# Altium integrated library Linear Technology Charge_Pump.IntLib: 599 symbols (part 28 of 29)
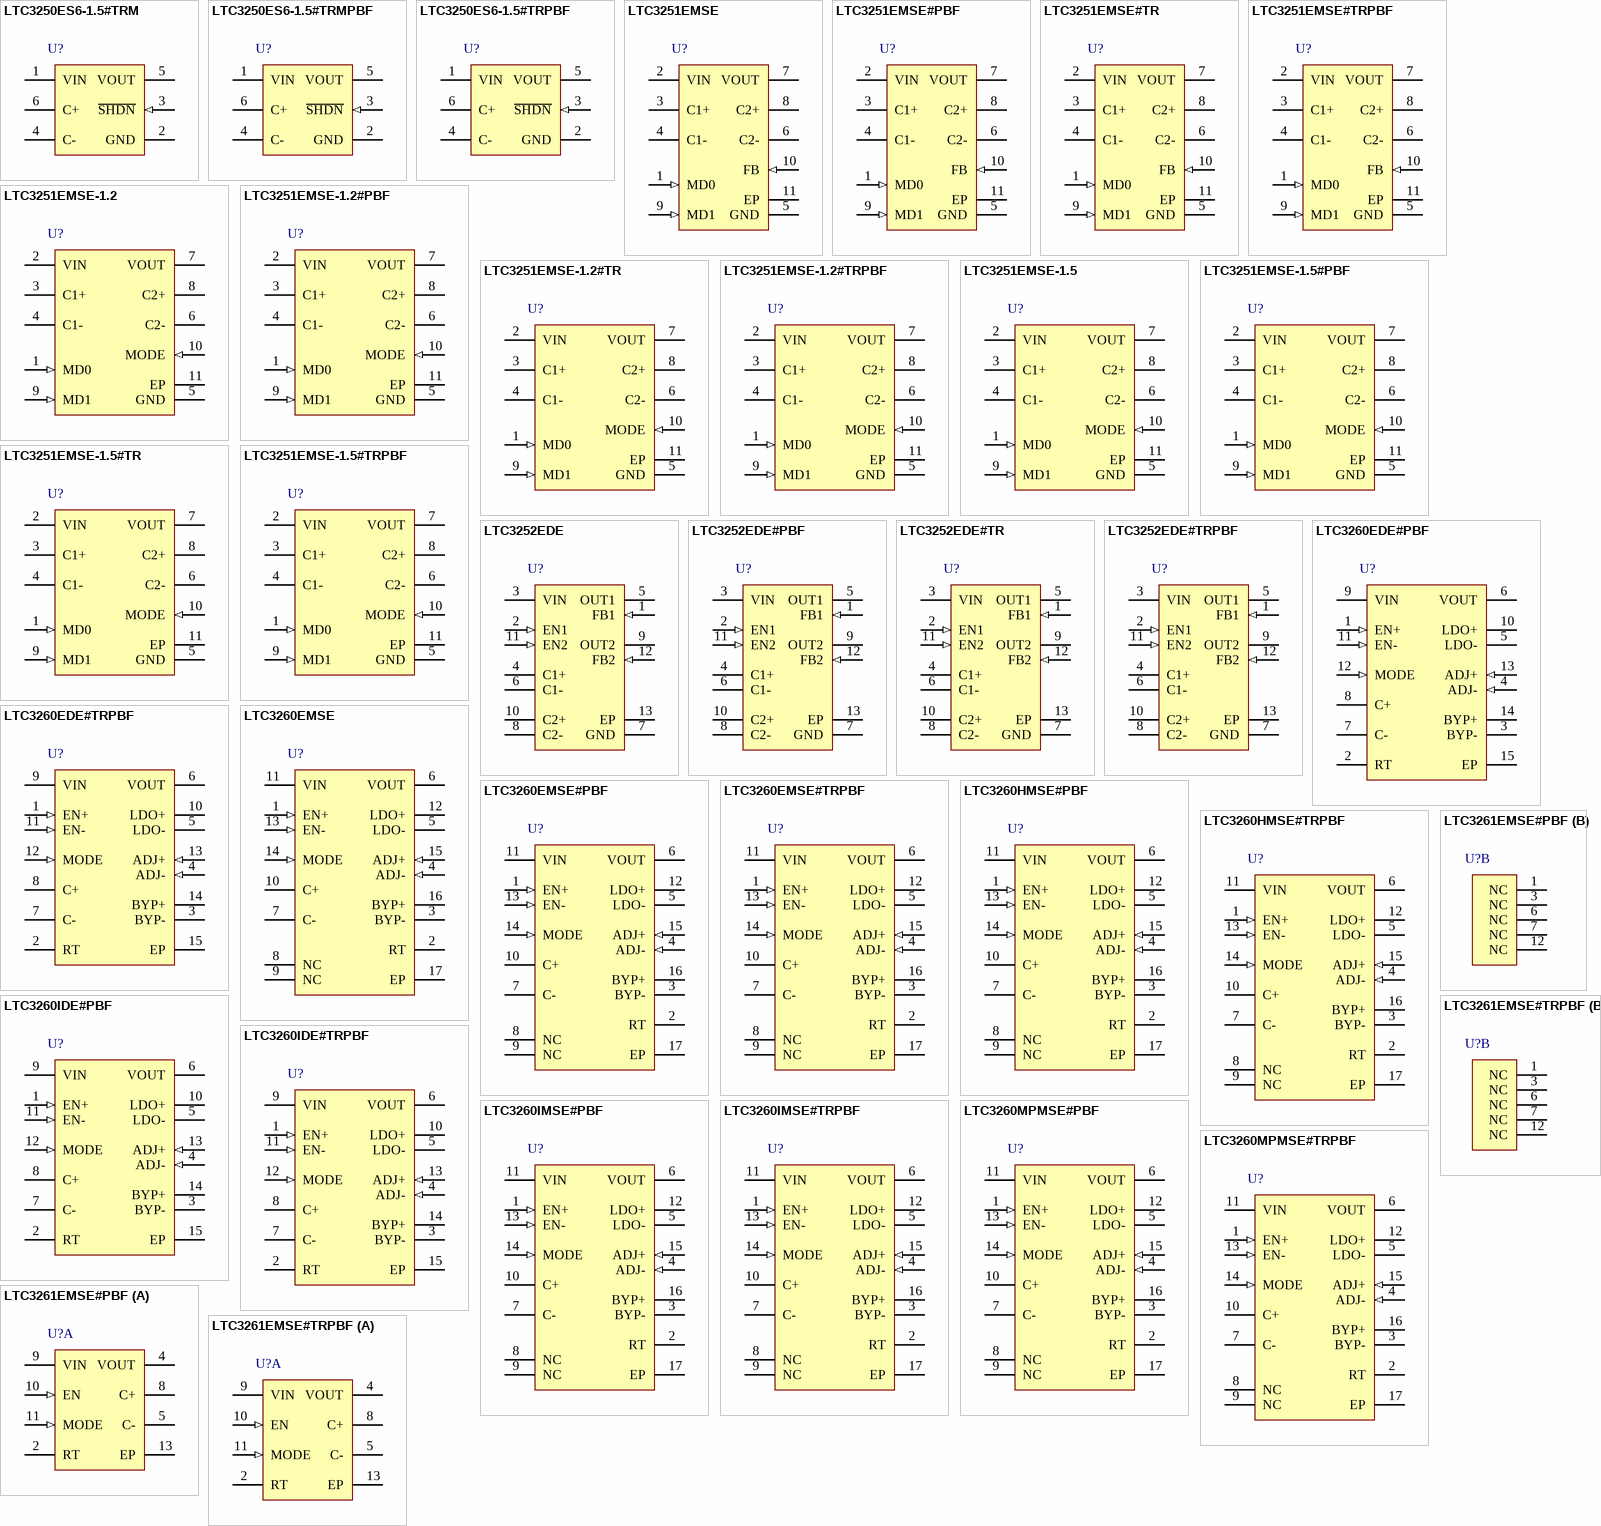
[diagram p43: symbols LTC3250ES6-1.5#TRM to LTC3261EMSE#TRPBF]

## LTC3260HMSE#PBF
designator U?
Low Noise Dual Supply Inverting Charge Pump, 4.5 to 32 V Vin, Adjustable Vout, 16-pin SOP (MSE-16-EDP), -40 to 150 degC, Pb-Free; Manufacturer: Linear Technology; PartNumber: LTC3260HMSE#PBF; Frequency(kHz): 500; Ishutdown(uA): 2; Isupply(mA): 0.1; Max Iout(mA): 100; Vin Max(V): 32; Vin Min(V): 4.5; Voutput: Adj; DatasheetVersion: Rev. A; PackageVersion: Rev. F, 05/2013; PackageReference: MSE-16; PackageDescription: 16-Pin Plastic MSOP, Exposed Die Pad, Body 4.039 x 3 mm, Pitch 0.5 mm; Supplier 1: Digi-Key; Supplier Part Number 1: LTC3260HMSE#PBF-ND; Supplier 2: Farnell; Supplier Part Number 2: 2293104; Supplier 3: Newark; Supplier Part Number 3: 45W8469; RoHS: TRUE; Mounting Technology: Surface Mount; ComponentLink1Description: Manufacturer URL; ComponentLink1URL: http://www.linear.com/; ComponentLink2Description: Datasheet; ComponentLink2URL: http://cds.linear.com/docs/en/datasheet/3260fa.pdf; ComponentLink3Description: Package Specification; ComponentLink3URL: http://cds.linear.com/docs/en/packaging/05081667_F_MSE16.pdf
footprint LT-MSE-16-EDP_N (SOP, 16-Leads, Body 4.1x3.1mm, Pitch 0.5mm, Thermal Pad 2.95x1.76mm, IPC Medium Density)
footprint LT-MSE-16-EDP_L (SOP, 16-Leads, Body 4.1x3.1mm, Pitch 0.5mm, Thermal Pad 2.95x1.76mm, IPC High Density)
footprint LT-MSE-16-EDP_M (SOP, 16-Leads, Body 4.1x3.1mm, Pitch 0.5mm, Thermal Pad 2.95x1.76mm, IPC Low Density)
pins: 1 EN+ (in) "Logic Input. A logic “high” on the EN+ pin enables the positive low dropout (LDO+) regulator.", 2 RT "Input Connection for Programming the Switching Frequency. The RT pin servos to a fixed 1.2V when the EN- pin is driven to a logic “high”. A resistor from RT to GND sets the charge pump switching frequency. If the RT (See Datasheet)", 3 BYP- "LDO- Reference Bypass Pin. Connect a capacitor from BYP- to GND to reduce LDO- output noise. Leave floating if unused.", 4 ADJ- (in) "Feedback Input for the Negative Low Dropout Regulator. This pin servos to a fixed voltage of -1.2V when the control loop is complete.", 5 LDO- (power) "Negative Low Dropout (LDO-) Linear Regulator Output. This pin requires a low ESR (equivalent series resistance) capacitor with at least 2uF capacitance to ground for stability.", 6 VOUT (power) "Charge Pump Output Voltage. In constant frequency mode (MODE = low) this pin is driven to -VIN. In Burst Mode operation, (MODE = high) this pin voltage is regulated to -0.94 • VIN using an internal burst comparator wit(See Datasheet)", 7 C- "Flying Capacitor Negative Connection.", 8 NC "No Connect. These pins are not connected to the LTC3260 die. These pins should be left floating, connected to ground or shorted to adjacent pins.", 9 NC "No Connect. These pins are not connected to the LTC3260 die. These pins should be left floating, connected to ground or shorted to adjacent pins.", 10 C+ "Flying Capacitor Positive Connection.", 11 VIN (power) "Input Voltage for Both Charge Pump and Positive Low Dropout (LDO+) Regulator. VIN should be bypassed with a low impedance ceramic capacitor", 12 LDO+ (power) "Positive Low Dropout (LDO+) Output. This pin requires a low ESR capacitor with at least 2uF capacitance to ground for stability.", 13 EN- (in) "Logic Input. A logic “high” on the EN- pin enables the inverting charge pump as well as the negative LDO regulator.", 14 MODE (in) "Logic Input. The MODE pin determines the charge pump operating mode. A logic “high” on the MODE pin forces the charge pump to operate in Burst Mode operation regulating VOUT to approximately -0.94 • VIN with hyste(See Datasheet)", 15 ADJ+ (in) "Feedback Input for the Positive Low Dropout (LDO+) Regulator. This pin servos to a fixed voltage of 1.2V when the control loop is complete.", 16 BYP+ "LDO+ Reference Bypass Pin. Connect a capacitor from BYP+ to GND to reduce LDO+ output noise. Leave floating if unused.", 17 EP (power) "Ground. The exposed package pad is ground and must be soldered to the PC board ground plane for proper functionality and for rated thermal performance."

## LTC3260HMSE#TRPBF
designator U?
Low Noise Dual Supply Inverting Charge Pump, 4.5 to 32 V Vin, Adjustable Vout, 16-pin SOP (MSE-16-EDP), -40 to 150 degC, Pb-Free, Tape and Reel; Manufacturer: Linear Technology; PartNumber: LTC3260HMSE#TRPBF; Frequency(kHz): 500; Ishutdown(uA): 2; Isupply(mA): 0.1; Max Iout(mA): 100; Vin Max(V): 32; Vin Min(V): 4.5; Voutput: Adj; DatasheetVersion: Rev. A; PackageVersion: Rev. F, 05/2013; PackageReference: MSE-16; PackageDescription: 16-Pin Plastic MSOP, Exposed Die Pad, Body 4.039 x 3 mm, Pitch 0.5 mm; Supplier 1: Digi-Key; Supplier Part Number 1: LTC3260HMSE#TRPBF-ND; Supplier 2: Newark; Supplier Part Number 2: 45W8470; Packing: Tape and Reel; RoHS: TRUE; Mounting Technology: Surface Mount; ComponentLink1Description: Manufacturer URL; ComponentLink1URL: http://www.linear.com/; ComponentLink2Description: Datasheet; ComponentLink2URL: http://cds.linear.com/docs/en/datasheet/3260fa.pdf; ComponentLink3Description: Package Specification; ComponentLink3URL: http://cds.linear.com/docs/en/packaging/05081667_F_MSE16.pdf
footprint LT-MSE-16-EDP_N (SOP, 16-Leads, Body 4.1x3.1mm, Pitch 0.5mm, Thermal Pad 2.95x1.76mm, IPC Medium Density)
footprint LT-MSE-16-EDP_L (SOP, 16-Leads, Body 4.1x3.1mm, Pitch 0.5mm, Thermal Pad 2.95x1.76mm, IPC High Density)
footprint LT-MSE-16-EDP_M (SOP, 16-Leads, Body 4.1x3.1mm, Pitch 0.5mm, Thermal Pad 2.95x1.76mm, IPC Low Density)
pins: 1 EN+ (in) "Logic Input. A logic “high” on the EN+ pin enables the positive low dropout (LDO+) regulator.", 2 RT "Input Connection for Programming the Switching Frequency. The RT pin servos to a fixed 1.2V when the EN- pin is driven to a logic “high”. A resistor from RT to GND sets the charge pump switching frequency. If the RT (See Datasheet)", 3 BYP- "LDO- Reference Bypass Pin. Connect a capacitor from BYP- to GND to reduce LDO- output noise. Leave floating if unused.", 4 ADJ- (in) "Feedback Input for the Negative Low Dropout Regulator. This pin servos to a fixed voltage of -1.2V when the control loop is complete.", 5 LDO- (power) "Negative Low Dropout (LDO-) Linear Regulator Output. This pin requires a low ESR (equivalent series resistance) capacitor with at least 2uF capacitance to ground for stability.", 6 VOUT (power) "Charge Pump Output Voltage. In constant frequency mode (MODE = low) this pin is driven to -VIN. In Burst Mode operation, (MODE = high) this pin voltage is regulated to -0.94 • VIN using an internal burst comparator wit(See Datasheet)", 7 C- "Flying Capacitor Negative Connection.", 8 NC "No Connect. These pins are not connected to the LTC3260 die. These pins should be left floating, connected to ground or shorted to adjacent pins.", 9 NC "No Connect. These pins are not connected to the LTC3260 die. These pins should be left floating, connected to ground or shorted to adjacent pins.", 10 C+ "Flying Capacitor Positive Connection.", 11 VIN (power) "Input Voltage for Both Charge Pump and Positive Low Dropout (LDO+) Regulator. VIN should be bypassed with a low impedance ceramic capacitor", 12 LDO+ (power) "Positive Low Dropout (LDO+) Output. This pin requires a low ESR capacitor with at least 2uF capacitance to ground for stability.", 13 EN- (in) "Logic Input. A logic “high” on the EN- pin enables the inverting charge pump as well as the negative LDO regulator.", 14 MODE (in) "Logic Input. The MODE pin determines the charge pump operating mode. A logic “high” on the MODE pin forces the charge pump to operate in Burst Mode operation regulating VOUT to approximately -0.94 • VIN with hyste(See Datasheet)", 15 ADJ+ (in) "Feedback Input for the Positive Low Dropout (LDO+) Regulator. This pin servos to a fixed voltage of 1.2V when the control loop is complete.", 16 BYP+ "LDO+ Reference Bypass Pin. Connect a capacitor from BYP+ to GND to reduce LDO+ output noise. Leave floating if unused.", 17 EP (power) "Ground. The exposed package pad is ground and must be soldered to the PC board ground plane for proper functionality and for rated thermal performance."

## LTC3260IDE#PBF
designator U?
Low Noise Dual Supply Inverting Charge Pump, 4.5 to 32 V Vin, Adjustable Vout, 14-pin SON (DE-14), -40 to 125 degC, Pb-Free; Manufacturer: Linear Technology; PartNumber: LTC3260IDE#PBF; Frequency(kHz): 500; Ishutdown(uA): 2; Isupply(mA): 0.1; Max Iout(mA): 100; Vin Max(V): 32; Vin Min(V): 4.5; Voutput: Adj; DatasheetVersion: Rev. A; PackageVersion: Rev. B, 06/2010; PackageReference: DE-14; PackageDescription: 14-Pin Plastic DFN, Body 4 x 3 mm, Pitch 0.5 mm; Supplier 1: Digi-Key; Supplier Part Number 1: LTC3260IDE#PBF-ND; Supplier 2: Farnell; Supplier Part Number 2: 2115841; Supplier 3: Newark; Supplier Part Number 3: 94T1247; RoHS: TRUE; Mounting Technology: Surface Mount; Code_JEDEC: MO-229; ComponentLink1Description: Manufacturer URL; ComponentLink1URL: http://www.linear.com/; ComponentLink2Description: Datasheet; ComponentLink2URL: http://cds.linear.com/docs/en/datasheet/3260fa.pdf; ComponentLink3Description: Package Specification; ComponentLink3URL: http://www.linear.com/docs/en/packaging/DFN_14_05-08-1708.pdf
footprint LT-DE-14_V (SON, 14-Leads, Body 4x3mm, Pitch 0.5mm, Thermal Pad 3.3x1.7mm)
pins: 1 EN+ (in) "Logic Input. A logic “high” on the EN+ pin enables the positive low dropout (LDO+) regulator.", 2 RT "Input Connection for Programming the Switching Frequency. The RT pin servos to a fixed 1.2V when the EN- pin is driven to a logic “high”. A resistor from RT to GND sets the charge pump switching frequency. If the RT (See Datasheet)", 3 BYP- "LDO- Reference Bypass Pin. Connect a capacitor from BYP- to GND to reduce LDO- output noise. Leave floating if unused.", 4 ADJ- (in) "Feedback Input for the Negative Low Dropout Regulator. This pin servos to a fixed voltage of -1.2V when the control loop is complete.", 5 LDO- (power) "Negative Low Dropout (LDO-) Linear Regulator Output. This pin requires a low ESR (equivalent series resistance) capacitor with at least 2uF capacitance to ground for stability.", 6 VOUT (power) "Charge Pump Output Voltage. In constant frequency mode (MODE = low) this pin is driven to -VIN. In Burst Mode operation, (MODE = high) this pin voltage is regulated to -0.94 • VIN using an internal burst comparator wit(See Datasheet)", 7 C- "Flying Capacitor Negative Connection.", 8 C+ "Flying Capacitor Positive Connection.", 9 VIN (power) "Input Voltage for Both Charge Pump and Positive Low Dropout (LDO+) Regulator. VIN should be bypassed with a low impedance ceramic capacitor", 10 LDO+ (power) "Positive Low Dropout (LDO+) Output. This pin requires a low ESR capacitor with at least 2uF capacitance to ground for stability.", 11 EN- (in) "Logic Input. A logic “high” on the EN- pin enables the inverting charge pump as well as the negative LDO regulator.", 12 MODE (in) "Logic Input. The MODE pin determines the charge pump operating mode. A logic “high” on the MODE pin forces the charge pump to operate in Burst Mode operation regulating VOUT to approximately -0.94 • VIN with hyste(See Datasheet)", 13 ADJ+ (in) "Feedback Input for the Positive Low Dropout (LDO+) Regulator. This pin servos to a fixed voltage of 1.2V when the control loop is complete.", 14 BYP+ "LDO+ Reference Bypass Pin. Connect a capacitor from BYP+ to GND to reduce LDO+ output noise. Leave floating if unused.", 15 EP (power) "Ground. The exposed package pad is ground and must be soldered to the PC board ground plane for proper functionality and for rated thermal performance."

## LTC3260IDE#TRPBF
designator U?
Low Noise Dual Supply Inverting Charge Pump, 4.5 to 32 V Vin, Adjustable Vout, 14-pin SON (DE-14), -40 to 125 degC, Pb-Free, Tape and Reel; Manufacturer: Linear Technology; PartNumber: LTC3260IDE#TRPBF; Frequency(kHz): 500; Ishutdown(uA): 2; Isupply(mA): 0.1; Max Iout(mA): 100; Vin Max(V): 32; Vin Min(V): 4.5; Voutput: Adj; DatasheetVersion: Rev. A; PackageVersion: Rev. B, 06/2010; PackageReference: DE-14; PackageDescription: 14-Pin Plastic DFN, Body 4 x 3 mm, Pitch 0.5 mm; Supplier 1: Digi-Key; Supplier Part Number 1: LTC3260IDE#TRPBF-ND; Packing: Tape and Reel; RoHS: TRUE; Mounting Technology: Surface Mount; Code_JEDEC: MO-229; ComponentLink1Description: Manufacturer URL; ComponentLink1URL: http://www.linear.com/; ComponentLink2Description: Datasheet; ComponentLink2URL: http://cds.linear.com/docs/en/datasheet/3260fa.pdf; ComponentLink3Description: Package Specification; ComponentLink3URL: http://www.linear.com/docs/en/packaging/DFN_14_05-08-1708.pdf
footprint LT-DE-14_V (SON, 14-Leads, Body 4x3mm, Pitch 0.5mm, Thermal Pad 3.3x1.7mm)
pins: 1 EN+ (in) "Logic Input. A logic “high” on the EN+ pin enables the positive low dropout (LDO+) regulator.", 2 RT "Input Connection for Programming the Switching Frequency. The RT pin servos to a fixed 1.2V when the EN- pin is driven to a logic “high”. A resistor from RT to GND sets the charge pump switching frequency. If the RT (See Datasheet)", 3 BYP- "LDO- Reference Bypass Pin. Connect a capacitor from BYP- to GND to reduce LDO- output noise. Leave floating if unused.", 4 ADJ- (in) "Feedback Input for the Negative Low Dropout Regulator. This pin servos to a fixed voltage of -1.2V when the control loop is complete.", 5 LDO- (power) "Negative Low Dropout (LDO-) Linear Regulator Output. This pin requires a low ESR (equivalent series resistance) capacitor with at least 2uF capacitance to ground for stability.", 6 VOUT (power) "Charge Pump Output Voltage. In constant frequency mode (MODE = low) this pin is driven to -VIN. In Burst Mode operation, (MODE = high) this pin voltage is regulated to -0.94 • VIN using an internal burst comparator wit(See Datasheet)", 7 C- "Flying Capacitor Negative Connection.", 8 C+ "Flying Capacitor Positive Connection.", 9 VIN (power) "Input Voltage for Both Charge Pump and Positive Low Dropout (LDO+) Regulator. VIN should be bypassed with a low impedance ceramic capacitor", 10 LDO+ (power) "Positive Low Dropout (LDO+) Output. This pin requires a low ESR capacitor with at least 2uF capacitance to ground for stability.", 11 EN- (in) "Logic Input. A logic “high” on the EN- pin enables the inverting charge pump as well as the negative LDO regulator.", 12 MODE (in) "Logic Input. The MODE pin determines the charge pump operating mode. A logic “high” on the MODE pin forces the charge pump to operate in Burst Mode operation regulating VOUT to approximately -0.94 • VIN with hyste(See Datasheet)", 13 ADJ+ (in) "Feedback Input for the Positive Low Dropout (LDO+) Regulator. This pin servos to a fixed voltage of 1.2V when the control loop is complete.", 14 BYP+ "LDO+ Reference Bypass Pin. Connect a capacitor from BYP+ to GND to reduce LDO+ output noise. Leave floating if unused.", 15 EP (power) "Ground. The exposed package pad is ground and must be soldered to the PC board ground plane for proper functionality and for rated thermal performance."

## LTC3260IMSE#PBF
designator U?
Low Noise Dual Supply Inverting Charge Pump, 4.5 to 32 V Vin, Adjustable Vout, 16-pin SOP (MSE-16-EDP), -40 to 125 degC, Pb-Free; Manufacturer: Linear Technology; PartNumber: LTC3260IMSE#PBF; Frequency(kHz): 500; Ishutdown(uA): 2; Isupply(mA): 0.1; Max Iout(mA): 100; Vin Max(V): 32; Vin Min(V): 4.5; Voutput: Adj; DatasheetVersion: Rev. A; PackageVersion: Rev. F, 05/2013; PackageReference: MSE-16; PackageDescription: 16-Pin Plastic MSOP, Exposed Die Pad, Body 4.039 x 3 mm, Pitch 0.5 mm; Supplier 1: Digi-Key; Supplier Part Number 1: LTC3260IMSE#PBF-ND; Supplier 2: Farnell; Supplier Part Number 2: 2115842; RoHS: TRUE; Mounting Technology: Surface Mount; ComponentLink1Description: Manufacturer URL; ComponentLink1URL: http://www.linear.com/; ComponentLink2Description: Datasheet; ComponentLink2URL: http://cds.linear.com/docs/en/datasheet/3260fa.pdf; ComponentLink3Description: Package Specification; ComponentLink3URL: http://cds.linear.com/docs/en/packaging/05081667_F_MSE16.pdf
footprint LT-MSE-16-EDP_N (SOP, 16-Leads, Body 4.1x3.1mm, Pitch 0.5mm, Thermal Pad 2.95x1.76mm, IPC Medium Density)
footprint LT-MSE-16-EDP_L (SOP, 16-Leads, Body 4.1x3.1mm, Pitch 0.5mm, Thermal Pad 2.95x1.76mm, IPC High Density)
footprint LT-MSE-16-EDP_M (SOP, 16-Leads, Body 4.1x3.1mm, Pitch 0.5mm, Thermal Pad 2.95x1.76mm, IPC Low Density)
pins: 1 EN+ (in) "Logic Input. A logic “high” on the EN+ pin enables the positive low dropout (LDO+) regulator.", 2 RT "Input Connection for Programming the Switching Frequency. The RT pin servos to a fixed 1.2V when the EN- pin is driven to a logic “high”. A resistor from RT to GND sets the charge pump switching frequency. If the RT (See Datasheet)", 3 BYP- "LDO- Reference Bypass Pin. Connect a capacitor from BYP- to GND to reduce LDO- output noise. Leave floating if unused.", 4 ADJ- (in) "Feedback Input for the Negative Low Dropout Regulator. This pin servos to a fixed voltage of -1.2V when the control loop is complete.", 5 LDO- (power) "Negative Low Dropout (LDO-) Linear Regulator Output. This pin requires a low ESR (equivalent series resistance) capacitor with at least 2uF capacitance to ground for stability.", 6 VOUT (power) "Charge Pump Output Voltage. In constant frequency mode (MODE = low) this pin is driven to -VIN. In Burst Mode operation, (MODE = high) this pin voltage is regulated to -0.94 • VIN using an internal burst comparator wit(See Datasheet)", 7 C- "Flying Capacitor Negative Connection.", 8 NC "No Connect. These pins are not connected to the LTC3260 die. These pins should be left floating, connected to ground or shorted to adjacent pins.", 9 NC "No Connect. These pins are not connected to the LTC3260 die. These pins should be left floating, connected to ground or shorted to adjacent pins.", 10 C+ "Flying Capacitor Positive Connection.", 11 VIN (power) "Input Voltage for Both Charge Pump and Positive Low Dropout (LDO+) Regulator. VIN should be bypassed with a low impedance ceramic capacitor", 12 LDO+ (power) "Positive Low Dropout (LDO+) Output. This pin requires a low ESR capacitor with at least 2uF capacitance to ground for stability.", 13 EN- (in) "Logic Input. A logic “high” on the EN- pin enables the inverting charge pump as well as the negative LDO regulator.", 14 MODE (in) "Logic Input. The MODE pin determines the charge pump operating mode. A logic “high” on the MODE pin forces the charge pump to operate in Burst Mode operation regulating VOUT to approximately -0.94 • VIN with hyste(See Datasheet)", 15 ADJ+ (in) "Feedback Input for the Positive Low Dropout (LDO+) Regulator. This pin servos to a fixed voltage of 1.2V when the control loop is complete.", 16 BYP+ "LDO+ Reference Bypass Pin. Connect a capacitor from BYP+ to GND to reduce LDO+ output noise. Leave floating if unused.", 17 EP (power) "Ground. The exposed package pad is ground and must be soldered to the PC board ground plane for proper functionality and for rated thermal performance."

## LTC3260IMSE#TRPBF
designator U?
Low Noise Dual Supply Inverting Charge Pump, 4.5 to 32 V Vin, Adjustable Vout, 16-pin SOP (MSE-16-EDP), -40 to 125 degC, Pb-Free, Tape and Reel; Manufacturer: Linear Technology; PartNumber: LTC3260IMSE#TRPBF; Frequency(kHz): 500; Ishutdown(uA): 2; Isupply(mA): 0.1; Max Iout(mA): 100; Vin Max(V): 32; Vin Min(V): 4.5; Voutput: Adj; DatasheetVersion: Rev. A; PackageVersion: Rev. F, 05/2013; PackageReference: MSE-16; PackageDescription: 16-Pin Plastic MSOP, Exposed Die Pad, Body 4.039 x 3 mm, Pitch 0.5 mm; Supplier 1: Digi-Key; Supplier Part Number 1: LTC3260IMSE#TRPBF-ND; Packing: Tape and Reel; RoHS: TRUE; Mounting Technology: Surface Mount; ComponentLink1Description: Manufacturer URL; ComponentLink1URL: http://www.linear.com/; ComponentLink2Description: Datasheet; ComponentLink2URL: http://cds.linear.com/docs/en/datasheet/3260fa.pdf; ComponentLink3Description: Package Specification; ComponentLink3URL: http://cds.linear.com/docs/en/packaging/05081667_F_MSE16.pdf
footprint LT-MSE-16-EDP_N (SOP, 16-Leads, Body 4.1x3.1mm, Pitch 0.5mm, Thermal Pad 2.95x1.76mm, IPC Medium Density)
footprint LT-MSE-16-EDP_L (SOP, 16-Leads, Body 4.1x3.1mm, Pitch 0.5mm, Thermal Pad 2.95x1.76mm, IPC High Density)
footprint LT-MSE-16-EDP_M (SOP, 16-Leads, Body 4.1x3.1mm, Pitch 0.5mm, Thermal Pad 2.95x1.76mm, IPC Low Density)
pins: 1 EN+ (in) "Logic Input. A logic “high” on the EN+ pin enables the positive low dropout (LDO+) regulator.", 2 RT "Input Connection for Programming the Switching Frequency. The RT pin servos to a fixed 1.2V when the EN- pin is driven to a logic “high”. A resistor from RT to GND sets the charge pump switching frequency. If the RT (See Datasheet)", 3 BYP- "LDO- Reference Bypass Pin. Connect a capacitor from BYP- to GND to reduce LDO- output noise. Leave floating if unused.", 4 ADJ- (in) "Feedback Input for the Negative Low Dropout Regulator. This pin servos to a fixed voltage of -1.2V when the control loop is complete.", 5 LDO- (power) "Negative Low Dropout (LDO-) Linear Regulator Output. This pin requires a low ESR (equivalent series resistance) capacitor with at least 2uF capacitance to ground for stability.", 6 VOUT (power) "Charge Pump Output Voltage. In constant frequency mode (MODE = low) this pin is driven to -VIN. In Burst Mode operation, (MODE = high) this pin voltage is regulated to -0.94 • VIN using an internal burst comparator wit(See Datasheet)", 7 C- "Flying Capacitor Negative Connection.", 8 NC "No Connect. These pins are not connected to the LTC3260 die. These pins should be left floating, connected to ground or shorted to adjacent pins.", 9 NC "No Connect. These pins are not connected to the LTC3260 die. These pins should be left floating, connected to ground or shorted to adjacent pins.", 10 C+ "Flying Capacitor Positive Connection.", 11 VIN (power) "Input Voltage for Both Charge Pump and Positive Low Dropout (LDO+) Regulator. VIN should be bypassed with a low impedance ceramic capacitor", 12 LDO+ (power) "Positive Low Dropout (LDO+) Output. This pin requires a low ESR capacitor with at least 2uF capacitance to ground for stability.", 13 EN- (in) "Logic Input. A logic “high” on the EN- pin enables the inverting charge pump as well as the negative LDO regulator.", 14 MODE (in) "Logic Input. The MODE pin determines the charge pump operating mode. A logic “high” on the MODE pin forces the charge pump to operate in Burst Mode operation regulating VOUT to approximately -0.94 • VIN with hyste(See Datasheet)", 15 ADJ+ (in) "Feedback Input for the Positive Low Dropout (LDO+) Regulator. This pin servos to a fixed voltage of 1.2V when the control loop is complete.", 16 BYP+ "LDO+ Reference Bypass Pin. Connect a capacitor from BYP+ to GND to reduce LDO+ output noise. Leave floating if unused.", 17 EP (power) "Ground. The exposed package pad is ground and must be soldered to the PC board ground plane for proper functionality and for rated thermal performance."

## LTC3260MPMSE#PBF
designator U?
Low Noise Dual Supply Inverting Charge Pump, 4.5 to 32 V Vin, Adjustable Vout, 16-pin SOP (MSE-16-EDP), -50 to 150 degC, Pb-Free; Manufacturer: Linear Technology; PartNumber: LTC3260MPMSE#PBF; Frequency(kHz): 500; Ishutdown(uA): 2; Isupply(mA): 0.1; Max Iout(mA): 100; Vin Max(V): 32; Vin Min(V): 4.5; Voutput: Adj; DatasheetVersion: Rev. A; PackageVersion: Rev. F, 05/2013; PackageReference: MSE-16; PackageDescription: 16-Pin Plastic MSOP, Exposed Die Pad, Body 4.039 x 3 mm, Pitch 0.5 mm; Supplier 1: Digi-Key; Supplier Part Number 1: LTC3260MPMSE#PBF-ND; Supplier 2: Farnell; Supplier Part Number 2: 2293105; Supplier 3: Newark; Supplier Part Number 3: 45W8471; RoHS: TRUE; Mounting Technology: Surface Mount; ComponentLink1Description: Manufacturer URL; ComponentLink1URL: http://www.linear.com/; ComponentLink2Description: Datasheet; ComponentLink2URL: http://cds.linear.com/docs/en/datasheet/3260fa.pdf; ComponentLink3Description: Package Specification; ComponentLink3URL: http://cds.linear.com/docs/en/packaging/05081667_F_MSE16.pdf
footprint LT-MSE-16-EDP_N (SOP, 16-Leads, Body 4.1x3.1mm, Pitch 0.5mm, Thermal Pad 2.95x1.76mm, IPC Medium Density)
footprint LT-MSE-16-EDP_L (SOP, 16-Leads, Body 4.1x3.1mm, Pitch 0.5mm, Thermal Pad 2.95x1.76mm, IPC High Density)
footprint LT-MSE-16-EDP_M (SOP, 16-Leads, Body 4.1x3.1mm, Pitch 0.5mm, Thermal Pad 2.95x1.76mm, IPC Low Density)
pins: 1 EN+ (in) "Logic Input. A logic “high” on the EN+ pin enables the positive low dropout (LDO+) regulator.", 2 RT "Input Connection for Programming the Switching Frequency. The RT pin servos to a fixed 1.2V when the EN- pin is driven to a logic “high”. A resistor from RT to GND sets the charge pump switching frequency. If the RT (See Datasheet)", 3 BYP- "LDO- Reference Bypass Pin. Connect a capacitor from BYP- to GND to reduce LDO- output noise. Leave floating if unused.", 4 ADJ- (in) "Feedback Input for the Negative Low Dropout Regulator. This pin servos to a fixed voltage of -1.2V when the control loop is complete.", 5 LDO- (power) "Negative Low Dropout (LDO-) Linear Regulator Output. This pin requires a low ESR (equivalent series resistance) capacitor with at least 2uF capacitance to ground for stability.", 6 VOUT (power) "Charge Pump Output Voltage. In constant frequency mode (MODE = low) this pin is driven to -VIN. In Burst Mode operation, (MODE = high) this pin voltage is regulated to -0.94 • VIN using an internal burst comparator wit(See Datasheet)", 7 C- "Flying Capacitor Negative Connection.", 8 NC "No Connect. These pins are not connected to the LTC3260 die. These pins should be left floating, connected to ground or shorted to adjacent pins.", 9 NC "No Connect. These pins are not connected to the LTC3260 die. These pins should be left floating, connected to ground or shorted to adjacent pins.", 10 C+ "Flying Capacitor Positive Connection.", 11 VIN (power) "Input Voltage for Both Charge Pump and Positive Low Dropout (LDO+) Regulator. VIN should be bypassed with a low impedance ceramic capacitor", 12 LDO+ (power) "Positive Low Dropout (LDO+) Output. This pin requires a low ESR capacitor with at least 2uF capacitance to ground for stability.", 13 EN- (in) "Logic Input. A logic “high” on the EN- pin enables the inverting charge pump as well as the negative LDO regulator.", 14 MODE (in) "Logic Input. The MODE pin determines the charge pump operating mode. A logic “high” on the MODE pin forces the charge pump to operate in Burst Mode operation regulating VOUT to approximately -0.94 • VIN with hyste(See Datasheet)", 15 ADJ+ (in) "Feedback Input for the Positive Low Dropout (LDO+) Regulator. This pin servos to a fixed voltage of 1.2V when the control loop is complete.", 16 BYP+ "LDO+ Reference Bypass Pin. Connect a capacitor from BYP+ to GND to reduce LDO+ output noise. Leave floating if unused.", 17 EP (power) "Ground. The exposed package pad is ground and must be soldered to the PC board ground plane for proper functionality and for rated thermal performance."

## LTC3260MPMSE#TRPBF
designator U?
Low Noise Dual Supply Inverting Charge Pump, 4.5 to 32 V Vin, Adjustable Vout, 16-pin SOP (MSE-16-EDP), -50 to 150 degC, Pb-Free, Tape and Reel; Manufacturer: Linear Technology; PartNumber: LTC3260MPMSE#TRPBF; Frequency(kHz): 500; Ishutdown(uA): 2; Isupply(mA): 0.1; Max Iout(mA): 100; Vin Max(V): 32; Vin Min(V): 4.5; Voutput: Adj; DatasheetVersion: Rev. A; PackageVersion: Rev. F, 05/2013; PackageReference: MSE-16; PackageDescription: 16-Pin Plastic MSOP, Exposed Die Pad, Body 4.039 x 3 mm, Pitch 0.5 mm; Supplier 1: Digi-Key; Supplier Part Number 1: LTC3260MPMSE#TRPBF-ND; Supplier 2: Newark; Supplier Part Number 2: 45W8472; Packing: Tape and Reel; RoHS: TRUE; Mounting Technology: Surface Mount; ComponentLink1Description: Manufacturer URL; ComponentLink1URL: http://www.linear.com/; ComponentLink2Description: Datasheet; ComponentLink2URL: http://cds.linear.com/docs/en/datasheet/3260fa.pdf; ComponentLink3Description: Package Specification; ComponentLink3URL: http://cds.linear.com/docs/en/packaging/05081667_F_MSE16.pdf
footprint LT-MSE-16-EDP_N (SOP, 16-Leads, Body 4.1x3.1mm, Pitch 0.5mm, Thermal Pad 2.95x1.76mm, IPC Medium Density)
footprint LT-MSE-16-EDP_L (SOP, 16-Leads, Body 4.1x3.1mm, Pitch 0.5mm, Thermal Pad 2.95x1.76mm, IPC High Density)
footprint LT-MSE-16-EDP_M (SOP, 16-Leads, Body 4.1x3.1mm, Pitch 0.5mm, Thermal Pad 2.95x1.76mm, IPC Low Density)
pins: 1 EN+ (in) "Logic Input. A logic “high” on the EN+ pin enables the positive low dropout (LDO+) regulator.", 2 RT "Input Connection for Programming the Switching Frequency. The RT pin servos to a fixed 1.2V when the EN- pin is driven to a logic “high”. A resistor from RT to GND sets the charge pump switching frequency. If the RT (See Datasheet)", 3 BYP- "LDO- Reference Bypass Pin. Connect a capacitor from BYP- to GND to reduce LDO- output noise. Leave floating if unused.", 4 ADJ- (in) "Feedback Input for the Negative Low Dropout Regulator. This pin servos to a fixed voltage of -1.2V when the control loop is complete.", 5 LDO- (power) "Negative Low Dropout (LDO-) Linear Regulator Output. This pin requires a low ESR (equivalent series resistance) capacitor with at least 2uF capacitance to ground for stability.", 6 VOUT (power) "Charge Pump Output Voltage. In constant frequency mode (MODE = low) this pin is driven to -VIN. In Burst Mode operation, (MODE = high) this pin voltage is regulated to -0.94 • VIN using an internal burst comparator wit(See Datasheet)", 7 C- "Flying Capacitor Negative Connection.", 8 NC "No Connect. These pins are not connected to the LTC3260 die. These pins should be left floating, connected to ground or shorted to adjacent pins.", 9 NC "No Connect. These pins are not connected to the LTC3260 die. These pins should be left floating, connected to ground or shorted to adjacent pins.", 10 C+ "Flying Capacitor Positive Connection.", 11 VIN (power) "Input Voltage for Both Charge Pump and Positive Low Dropout (LDO+) Regulator. VIN should be bypassed with a low impedance ceramic capacitor", 12 LDO+ (power) "Positive Low Dropout (LDO+) Output. This pin requires a low ESR capacitor with at least 2uF capacitance to ground for stability.", 13 EN- (in) "Logic Input. A logic “high” on the EN- pin enables the inverting charge pump as well as the negative LDO regulator.", 14 MODE (in) "Logic Input. The MODE pin determines the charge pump operating mode. A logic “high” on the MODE pin forces the charge pump to operate in Burst Mode operation regulating VOUT to approximately -0.94 • VIN with hyste(See Datasheet)", 15 ADJ+ (in) "Feedback Input for the Positive Low Dropout (LDO+) Regulator. This pin servos to a fixed voltage of 1.2V when the control loop is complete.", 16 BYP+ "LDO+ Reference Bypass Pin. Connect a capacitor from BYP+ to GND to reduce LDO+ output noise. Leave floating if unused.", 17 EP (power) "Ground. The exposed package pad is ground and must be soldered to the PC board ground plane for proper functionality and for rated thermal performance."

## LTC3261EMSE#PBF
designator U?
High Voltage, Low Quiescent Current Inverting Charge Pump, 4.5 to 32 V Vin, 12-pin SOP (MSE-12-EDP), -40 to 125 degC, Pb-Free; Manufacturer: Linear Technology; PartNumber: LTC3261EMSE#PBF; Frequency(kHz): 500; Ishutdown(uA): 2; Isupply(mA): 0.06; Max Iout(mA): 100; Vin Max(V): 32; Vin Min(V): 4.5; Voutput: -Vin; DatasheetVersion: Rev. B; PackageVersion: Rev. G, 05/2013; PackageReference: MSE-12-EDP; PackageDescription: 12-Pin Plastic MSOP, Exposed Die Pad, Body 4.039 x 3 mm, Pitch 0.65 mm; Supplier 1: Digi-Key; Supplier Part Number 1: LTC3261EMSE#PBF-ND; Supplier 2: Farnell; Supplier Part Number 2: 2115843; Supplier 3: Newark; Supplier Part Number 3: 94T1251; RoHS: TRUE; Mounting Technology: Surface Mount; ComponentLink1Description: Manufacturer URL; ComponentLink1URL: http://www.linear.com/; ComponentLink2Description: Datasheet; ComponentLink2URL: http://cds.linear.com/docs/en/datasheet/3261fb.pdf; ComponentLink3Description: Package Specification; ComponentLink3URL: http://cds.linear.com/docs/en/packaging/05081666_G_MSE12.pdf
footprint LT-MSE-12-EDP_N (SOP, 12-Leads, Body 4.1x3.1mm, Pitch 0.65mm, Thermal Pad 2.95x1.76mm, IPC Medium Density)
footprint LT-MSE-12-EDP_L (SOP, 12-Leads, Body 4.1x3.1mm, Pitch 0.65mm, Thermal Pad 2.95x1.76mm, IPC High Density)
footprint LT-MSE-12-EDP_M (SOP, 12-Leads, Body 4.1x3.1mm, Pitch 0.65mm, Thermal Pad 2.95x1.76mm, IPC Low Density)
part A pins: 2 RT "Input Connection for Programming the Switching Frequency. The RT pin servos to a fixed 1.2V when the EN pin is driven to a logic “high? A resistor from RT to GND sets the charge pump switching frequency. If the RT (See Datasheet)", 4 VOUT (power) "Charge Pump Output Voltage. In constant frequency mode (MODE = low) this pin is driven to -VIN. In Burst Mode operation, (MODE = high) this pin voltage is regulated to -0.94 ?VIN using an internal burst comparator wit(See Datasheet)", 5 C- "Flying Capacitor Negative Connection.", 8 C+ "Flying Capacitor Positive Connection.", 9 VIN (power) "Input Voltage for the Charge Pump. VIN should be bypassed with a low impedance ceramic capacitor.", 10 EN (in) "Logic Input. A logic “high?on the EN pin enables the inverting charge pump.", 11 MODE (in) "Logic Input. The MODE pin determines the charge pump operating mode. A logic “high?on the MODE pin forces the charge pump into Burst Mode operation regulating VOUT to approximately -0.94 ?VIN with hysteretic con(See Datasheet)", 13 EP (power) "Ground. The exposed package pad is ground and must be soldered to the PC board ground plane for proper functionality and for rated thermal performance."
part B pins: 1 NC "No Connect Pins. These pins are not connected to the LTC3261 die. These pins should be left floating or connected to ground. Pins 6 and 7 can also be shorted to adjacent pins.", 3 NC "No Connect Pins. These pins are not connected to the LTC3261 die. These pins should be left floating or connected to ground. Pins 6 and 7 can also be shorted to adjacent pins.", 6 NC "No Connect Pins. These pins are not connected to the LTC3261 die. These pins should be left floating or connected to ground. Pins 6 and 7 can also be shorted to adjacent pins.", 7 NC "No Connect Pins. These pins are not connected to the LTC3261 die. These pins should be left floating or connected to ground. Pins 6 and 7 can also be shorted to adjacent pins.", 12 NC "No Connect Pins. These pins are not connected to the LTC3261 die. These pins should be left floating or connected to ground. Pins 6 and 7 can also be shorted to adjacent pins."

## LTC3261EMSE#TRPBF
designator U?
High Voltage, Low Quiescent Current Inverting Charge Pump, 4.5 to 32 V Vin, 12-pin SOP (MSE-12-EDP), -40 to 125 degC, Pb-Free, Tape and Reel; Manufacturer: Linear Technology; PartNumber: LTC3261EMSE#TRPBF; Frequency(kHz): 500; Ishutdown(uA): 2; Isupply(mA): 0.06; Max Iout(mA): 100; Vin Max(V): 32; Vin Min(V): 4.5; Voutput: -Vin; DatasheetVersion: Rev. B; PackageVersion: Rev. G, 05/2013; PackageReference: MSE-12-EDP; PackageDescription: 12-Pin Plastic MSOP, Exposed Die Pad, Body 4.039 x 3 mm, Pitch 0.65 mm; Supplier 1: Digi-Key; Supplier Part Number 1: LTC3261EMSE#TRPBF-ND; Supplier 2: Newark; Supplier Part Number 2: 94T1252; Packing: Tape and Reel; RoHS: TRUE; Mounting Technology: Surface Mount; ComponentLink1Description: Manufacturer URL; ComponentLink1URL: http://www.linear.com/; ComponentLink2Description: Datasheet; ComponentLink2URL: http://cds.linear.com/docs/en/datasheet/3261fb.pdf; ComponentLink3Description: Package Specification; ComponentLink3URL: http://cds.linear.com/docs/en/packaging/05081666_G_MSE12.pdf
footprint LT-MSE-12-EDP_N (SOP, 12-Leads, Body 4.1x3.1mm, Pitch 0.65mm, Thermal Pad 2.95x1.76mm, IPC Medium Density)
footprint LT-MSE-12-EDP_L (SOP, 12-Leads, Body 4.1x3.1mm, Pitch 0.65mm, Thermal Pad 2.95x1.76mm, IPC High Density)
footprint LT-MSE-12-EDP_M (SOP, 12-Leads, Body 4.1x3.1mm, Pitch 0.65mm, Thermal Pad 2.95x1.76mm, IPC Low Density)
part A pins: 2 RT "Input Connection for Programming the Switching Frequency. The RT pin servos to a fixed 1.2V when the EN pin is driven to a logic “high? A resistor from RT to GND sets the charge pump switching frequency. If the RT (See Datasheet)", 4 VOUT (power) "Charge Pump Output Voltage. In constant frequency mode (MODE = low) this pin is driven to -VIN. In Burst Mode operation, (MODE = high) this pin voltage is regulated to -0.94 ?VIN using an internal burst comparator wit(See Datasheet)", 5 C- "Flying Capacitor Negative Connection.", 8 C+ "Flying Capacitor Positive Connection.", 9 VIN (power) "Input Voltage for the Charge Pump. VIN should be bypassed with a low impedance ceramic capacitor.", 10 EN (in) "Logic Input. A logic “high?on the EN pin enables the inverting charge pump.", 11 MODE (in) "Logic Input. The MODE pin determines the charge pump operating mode. A logic “high?on the MODE pin forces the charge pump into Burst Mode operation regulating VOUT to approximately -0.94 ?VIN with hysteretic con(See Datasheet)", 13 EP (power) "Ground. The exposed package pad is ground and must be soldered to the PC board ground plane for proper functionality and for rated thermal performance."
part B pins: 1 NC "No Connect Pins. These pins are not connected to the LTC3261 die. These pins should be left floating or connected to ground. Pins 6 and 7 can also be shorted to adjacent pins.", 3 NC "No Connect Pins. These pins are not connected to the LTC3261 die. These pins should be left floating or connected to ground. Pins 6 and 7 can also be shorted to adjacent pins.", 6 NC "No Connect Pins. These pins are not connected to the LTC3261 die. These pins should be left floating or connected to ground. Pins 6 and 7 can also be shorted to adjacent pins.", 7 NC "No Connect Pins. These pins are not connected to the LTC3261 die. These pins should be left floating or connected to ground. Pins 6 and 7 can also be shorted to adjacent pins.", 12 NC "No Connect Pins. These pins are not connected to the LTC3261 die. These pins should be left floating or connected to ground. Pins 6 and 7 can also be shorted to adjacent pins."

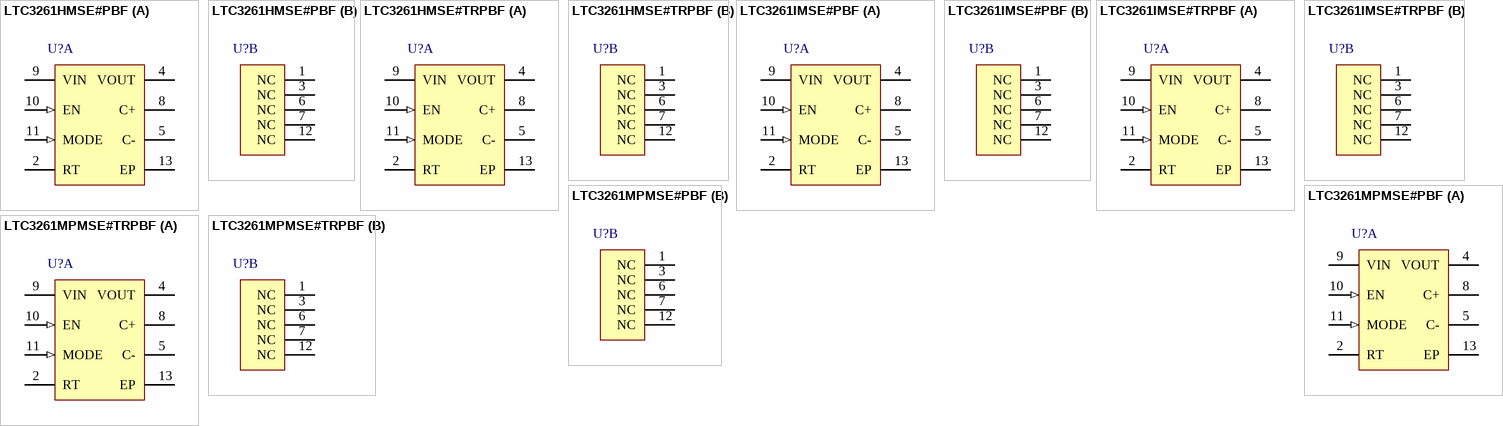
[diagram p16: symbols LTC3261HMSE#PBF to LTC3261MPMSE#TRPBF]

## LTC3261HMSE#PBF
designator U?
High Voltage, Low Quiescent Current Inverting Charge Pump, 4.5 to 32 V Vin, 12-pin SOP (MSE-12-EDP), -40 to 150 degC, Pb-Free; Manufacturer: Linear Technology; PartNumber: LTC3261HMSE#PBF; Frequency(kHz): 500; Ishutdown(uA): 2; Isupply(mA): 0.06; Max Iout(mA): 100; Vin Max(V): 32; Vin Min(V): 4.5; Voutput: -Vin; DatasheetVersion: Rev. B; PackageVersion: Rev. G, 05/2013; PackageReference: MSE-12-EDP; PackageDescription: 12-Pin Plastic MSOP, Exposed Die Pad, Body 4.039 x 3 mm, Pitch 0.65 mm; Supplier 1: Digi-Key; Supplier Part Number 1: LTC3261HMSE#PBF-ND; Supplier 2: Farnell; Supplier Part Number 2: 2293106; Supplier 3: Newark; Supplier Part Number 3: 45W8473; RoHS: TRUE; Mounting Technology: Surface Mount; ComponentLink1Description: Manufacturer URL; ComponentLink1URL: http://www.linear.com/; ComponentLink2Description: Datasheet; ComponentLink2URL: http://cds.linear.com/docs/en/datasheet/3261fb.pdf; ComponentLink3Description: Package Specification; ComponentLink3URL: http://cds.linear.com/docs/en/packaging/05081666_G_MSE12.pdf
footprint LT-MSE-12-EDP_N (SOP, 12-Leads, Body 4.1x3.1mm, Pitch 0.65mm, Thermal Pad 2.95x1.76mm, IPC Medium Density)
footprint LT-MSE-12-EDP_L (SOP, 12-Leads, Body 4.1x3.1mm, Pitch 0.65mm, Thermal Pad 2.95x1.76mm, IPC High Density)
footprint LT-MSE-12-EDP_M (SOP, 12-Leads, Body 4.1x3.1mm, Pitch 0.65mm, Thermal Pad 2.95x1.76mm, IPC Low Density)
part A pins: 2 RT "Input Connection for Programming the Switching Frequency. The RT pin servos to a fixed 1.2V when the EN pin is driven to a logic “high? A resistor from RT to GND sets the charge pump switching frequency. If the RT (See Datasheet)", 4 VOUT (power) "Charge Pump Output Voltage. In constant frequency mode (MODE = low) this pin is driven to -VIN. In Burst Mode operation, (MODE = high) this pin voltage is regulated to -0.94 ?VIN using an internal burst comparator wit(See Datasheet)", 5 C- "Flying Capacitor Negative Connection.", 8 C+ "Flying Capacitor Positive Connection.", 9 VIN (power) "Input Voltage for the Charge Pump. VIN should be bypassed with a low impedance ceramic capacitor.", 10 EN (in) "Logic Input. A logic “high?on the EN pin enables the inverting charge pump.", 11 MODE (in) "Logic Input. The MODE pin determines the charge pump operating mode. A logic “high?on the MODE pin forces the charge pump into Burst Mode operation regulating VOUT to approximately -0.94 ?VIN with hysteretic con(See Datasheet)", 13 EP (power) "Ground. The exposed package pad is ground and must be soldered to the PC board ground plane for proper functionality and for rated thermal performance."
part B pins: 1 NC "No Connect Pins. These pins are not connected to the LTC3261 die. These pins should be left floating or connected to ground. Pins 6 and 7 can also be shorted to adjacent pins.", 3 NC "No Connect Pins. These pins are not connected to the LTC3261 die. These pins should be left floating or connected to ground. Pins 6 and 7 can also be shorted to adjacent pins.", 6 NC "No Connect Pins. These pins are not connected to the LTC3261 die. These pins should be left floating or connected to ground. Pins 6 and 7 can also be shorted to adjacent pins.", 7 NC "No Connect Pins. These pins are not connected to the LTC3261 die. These pins should be left floating or connected to ground. Pins 6 and 7 can also be shorted to adjacent pins.", 12 NC "No Connect Pins. These pins are not connected to the LTC3261 die. These pins should be left floating or connected to ground. Pins 6 and 7 can also be shorted to adjacent pins."

## LTC3261HMSE#TRPBF
designator U?
High Voltage, Low Quiescent Current Inverting Charge Pump, 4.5 to 32 V Vin, 12-pin SOP (MSE-12-EDP), -40 to 150 degC, Pb-Free, Tape and Reel; Manufacturer: Linear Technology; PartNumber: LTC3261HMSE#TRPBF; Frequency(kHz): 500; Ishutdown(uA): 2; Isupply(mA): 0.06; Max Iout(mA): 100; Vin Max(V): 32; Vin Min(V): 4.5; Voutput: -Vin; DatasheetVersion: Rev. B; PackageVersion: Rev. G, 05/2013; PackageReference: MSE-12-EDP; PackageDescription: 12-Pin Plastic MSOP, Exposed Die Pad, Body 4.039 x 3 mm, Pitch 0.65 mm; Supplier 1: Digi-Key; Supplier Part Number 1: LTC3261HMSE#TRPBF-ND; Supplier 2: Newark; Supplier Part Number 2: 45W8474; Packing: Tape and Reel; RoHS: TRUE; Mounting Technology: Surface Mount; ComponentLink1Description: Manufacturer URL; ComponentLink1URL: http://www.linear.com/; ComponentLink2Description: Datasheet; ComponentLink2URL: http://cds.linear.com/docs/en/datasheet/3261fb.pdf; ComponentLink3Description: Package Specification; ComponentLink3URL: http://cds.linear.com/docs/en/packaging/05081666_G_MSE12.pdf
footprint LT-MSE-12-EDP_N (SOP, 12-Leads, Body 4.1x3.1mm, Pitch 0.65mm, Thermal Pad 2.95x1.76mm, IPC Medium Density)
footprint LT-MSE-12-EDP_L (SOP, 12-Leads, Body 4.1x3.1mm, Pitch 0.65mm, Thermal Pad 2.95x1.76mm, IPC High Density)
footprint LT-MSE-12-EDP_M (SOP, 12-Leads, Body 4.1x3.1mm, Pitch 0.65mm, Thermal Pad 2.95x1.76mm, IPC Low Density)
part A pins: 2 RT "Input Connection for Programming the Switching Frequency. The RT pin servos to a fixed 1.2V when the EN pin is driven to a logic “high? A resistor from RT to GND sets the charge pump switching frequency. If the RT (See Datasheet)", 4 VOUT (power) "Charge Pump Output Voltage. In constant frequency mode (MODE = low) this pin is driven to -VIN. In Burst Mode operation, (MODE = high) this pin voltage is regulated to -0.94 ?VIN using an internal burst comparator wit(See Datasheet)", 5 C- "Flying Capacitor Negative Connection.", 8 C+ "Flying Capacitor Positive Connection.", 9 VIN (power) "Input Voltage for the Charge Pump. VIN should be bypassed with a low impedance ceramic capacitor.", 10 EN (in) "Logic Input. A logic “high?on the EN pin enables the inverting charge pump.", 11 MODE (in) "Logic Input. The MODE pin determines the charge pump operating mode. A logic “high?on the MODE pin forces the charge pump into Burst Mode operation regulating VOUT to approximately -0.94 ?VIN with hysteretic con(See Datasheet)", 13 EP (power) "Ground. The exposed package pad is ground and must be soldered to the PC board ground plane for proper functionality and for rated thermal performance."
part B pins: 1 NC "No Connect Pins. These pins are not connected to the LTC3261 die. These pins should be left floating or connected to ground. Pins 6 and 7 can also be shorted to adjacent pins.", 3 NC "No Connect Pins. These pins are not connected to the LTC3261 die. These pins should be left floating or connected to ground. Pins 6 and 7 can also be shorted to adjacent pins.", 6 NC "No Connect Pins. These pins are not connected to the LTC3261 die. These pins should be left floating or connected to ground. Pins 6 and 7 can also be shorted to adjacent pins.", 7 NC "No Connect Pins. These pins are not connected to the LTC3261 die. These pins should be left floating or connected to ground. Pins 6 and 7 can also be shorted to adjacent pins.", 12 NC "No Connect Pins. These pins are not connected to the LTC3261 die. These pins should be left floating or connected to ground. Pins 6 and 7 can also be shorted to adjacent pins."

## LTC3261IMSE#PBF
designator U?
High Voltage, Low Quiescent Current Inverting Charge Pump, 4.5 to 32 V Vin, 12-pin SOP (MSE-12-EDP), -40 to 125 degC, Pb-Free; Manufacturer: Linear Technology; PartNumber: LTC3261IMSE#PBF; Frequency(kHz): 500; Ishutdown(uA): 2; Isupply(mA): 0.06; Max Iout(mA): 100; Vin Max(V): 32; Vin Min(V): 4.5; Voutput: -Vin; DatasheetVersion: Rev. B; PackageVersion: Rev. G, 05/2013; PackageReference: MSE-12-EDP; PackageDescription: 12-Pin Plastic MSOP, Exposed Die Pad, Body 4.039 x 3 mm, Pitch 0.65 mm; Supplier 1: Digi-Key; Supplier Part Number 1: LTC3261IMSE#PBF-ND; Supplier 2: Farnell; Supplier Part Number 2: 2115844; Supplier 3: Newark; Supplier Part Number 3: 94T1253; RoHS: TRUE; Mounting Technology: Surface Mount; ComponentLink1Description: Manufacturer URL; ComponentLink1URL: http://www.linear.com/; ComponentLink2Description: Datasheet; ComponentLink2URL: http://cds.linear.com/docs/en/datasheet/3261fb.pdf; ComponentLink3Description: Package Specification; ComponentLink3URL: http://cds.linear.com/docs/en/packaging/05081666_G_MSE12.pdf
footprint LT-MSE-12-EDP_N (SOP, 12-Leads, Body 4.1x3.1mm, Pitch 0.65mm, Thermal Pad 2.95x1.76mm, IPC Medium Density)
footprint LT-MSE-12-EDP_L (SOP, 12-Leads, Body 4.1x3.1mm, Pitch 0.65mm, Thermal Pad 2.95x1.76mm, IPC High Density)
footprint LT-MSE-12-EDP_M (SOP, 12-Leads, Body 4.1x3.1mm, Pitch 0.65mm, Thermal Pad 2.95x1.76mm, IPC Low Density)
part A pins: 2 RT "Input Connection for Programming the Switching Frequency. The RT pin servos to a fixed 1.2V when the EN pin is driven to a logic “high? A resistor from RT to GND sets the charge pump switching frequency. If the RT (See Datasheet)", 4 VOUT (power) "Charge Pump Output Voltage. In constant frequency mode (MODE = low) this pin is driven to -VIN. In Burst Mode operation, (MODE = high) this pin voltage is regulated to -0.94 ?VIN using an internal burst comparator wit(See Datasheet)", 5 C- "Flying Capacitor Negative Connection.", 8 C+ "Flying Capacitor Positive Connection.", 9 VIN (power) "Input Voltage for the Charge Pump. VIN should be bypassed with a low impedance ceramic capacitor.", 10 EN (in) "Logic Input. A logic “high?on the EN pin enables the inverting charge pump.", 11 MODE (in) "Logic Input. The MODE pin determines the charge pump operating mode. A logic “high?on the MODE pin forces the charge pump into Burst Mode operation regulating VOUT to approximately -0.94 ?VIN with hysteretic con(See Datasheet)", 13 EP (power) "Ground. The exposed package pad is ground and must be soldered to the PC board ground plane for proper functionality and for rated thermal performance."
part B pins: 1 NC "No Connect Pins. These pins are not connected to the LTC3261 die. These pins should be left floating or connected to ground. Pins 6 and 7 can also be shorted to adjacent pins.", 3 NC "No Connect Pins. These pins are not connected to the LTC3261 die. These pins should be left floating or connected to ground. Pins 6 and 7 can also be shorted to adjacent pins.", 6 NC "No Connect Pins. These pins are not connected to the LTC3261 die. These pins should be left floating or connected to ground. Pins 6 and 7 can also be shorted to adjacent pins.", 7 NC "No Connect Pins. These pins are not connected to the LTC3261 die. These pins should be left floating or connected to ground. Pins 6 and 7 can also be shorted to adjacent pins.", 12 NC "No Connect Pins. These pins are not connected to the LTC3261 die. These pins should be left floating or connected to ground. Pins 6 and 7 can also be shorted to adjacent pins."